# Altium footprint library Diodes.PcbLib: 1 footprints
Each footprint in its own frame and in the unit in brackets; x right, y up, seen from the top. Pads: shape width x height; smd on the part's side, far side on the other; paste and mask are expansions set on the pad; w line width, h text height; cw(c..) or ccw(c..) is an arc to the next point about the centre after c.
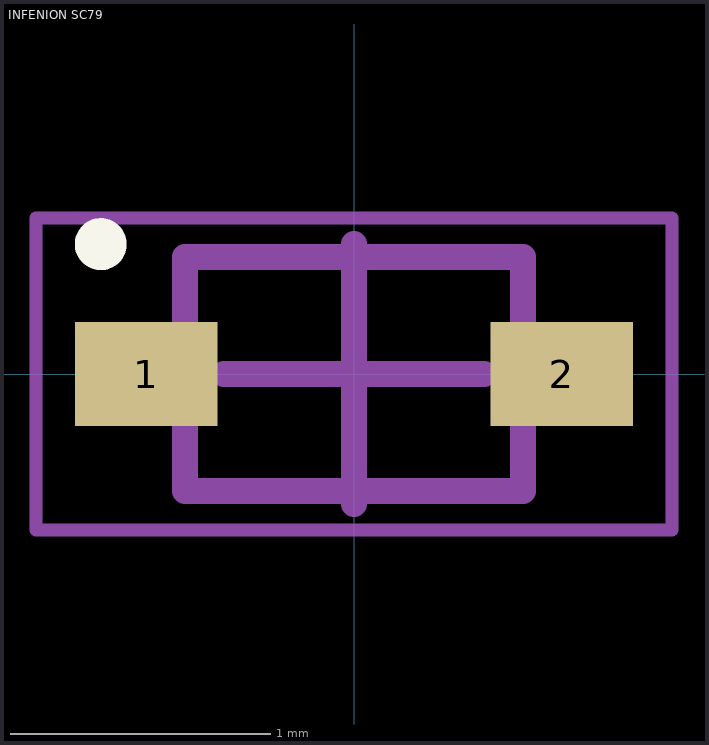
[diagram p0: the footprint, top view; thin cyan lines are the x and y axes]

## INFENION SC79 [mm] "SODFL, 2-Leads, Body 0.80x1.60mm, IPC Medium Density"
height 0.59
pads (2):
  rect 0.55x0.4 smd: 1(-0.8,0) 2(0.8,0)
Top Overlay:
  circle w0.1: c-0.975,0.5 r0.05
Mechanical 13:
  lines w0.1: -0.65,-0.45 -0.65,0.45 0.65,0.45 0.65,-0.45 -0.65,-0.45
Mechanical 15:
  lines w0.05: -1.225,-0.6 -1.225,0.6 1.225,0.6 1.225,-0.6 -1.225,-0.6
  lines w0.1: -0.5,0 0.5,0 ; 0,-0.5 0,0.5
3D body "INFENION SC79.step": height 0.59, standoff 0, extent -0.8,-0.45 0.8,0.45